# Altium integrated library TI_Logic_Flip-Flop,Latch,Register.IntLib: 2598 symbols (part 42 of 122)
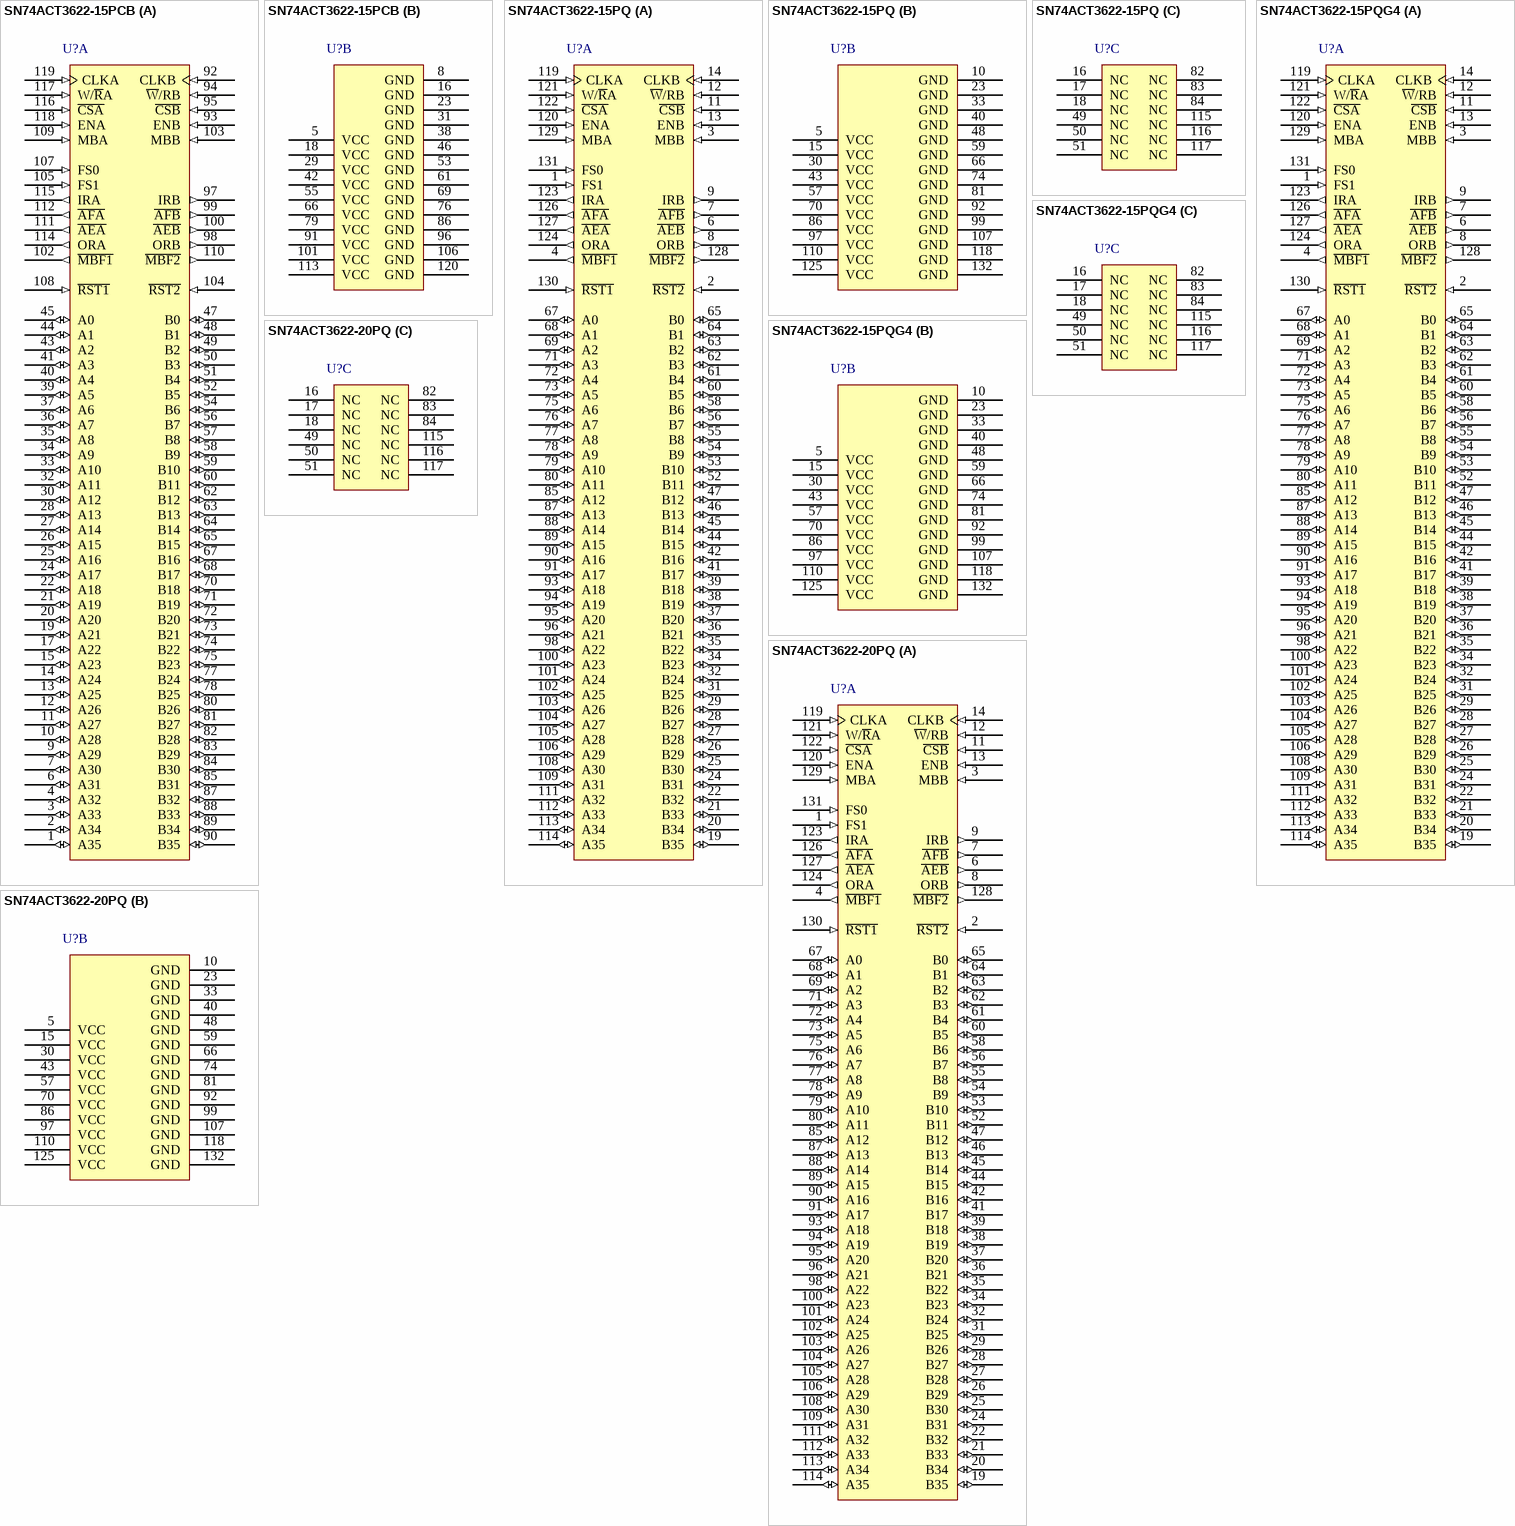
[diagram p180: symbols SN74ACT3622-15PCB to SN74ACT3622-20PQ]

## SN74ACT3622-15PQ
designator U?
256 x 36 x 2 bidirectional synchronous FIFO memory, PQ0132A, JEDEC TRAY (10+1); Generic Part Number: SN74ACT3622; Manufacturer: Texas Instruments; PartNumber: SN74ACT3622-15PQ; Vcc range(V): 4.5 to 5.5; Fmax(MHz): 67; Voltage Nodes(V): 5; Sync/Async: S; Rating: Catalog; Output Drive(mA): -0.5; DatasheetVersion: SCAS247D; PackageReference: PQ0132A; Depth: 255; Width: 36; Operating Temperature Range(C): 0 to 70; Code_JEDEC: MO-069; ComponentLink1Description: Manufacturer URL; ComponentLink1URL: http://www.ti.com/; ComponentLink2Description: Datasheet; ComponentLink2URL: http://www.ti.com/lit/ds/symlink/sn74act3622.pdf; ComponentLink3Description: Package Specification; ComponentLink3URL: http://www.ti.com/lit/ml/mbqf001a/mbqf001a.pdf
footprint PQ0132A_N (QFP, 132-Leads, Body 24.1x24.1mm, Pitch 0.635mm, IPC Medium Density)
footprint PQ0132A_M (QFP, 132-Leads, Body 24.1x24.1mm, Pitch 0.635mm, IPC Low Density)
footprint PQ0132A_L (QFP, 132-Leads, Body 24.1x24.1mm, Pitch 0.635mm, IPC High Density)
part A pins: 1 FS1 (in) "Flag-offset selects. The low-to-high transition of a FIFO reset input latches the values of FS0 and FS1. If either FS0 or FS1 is high when a reset input goes high, one of three preset values is selected as the offset for the (See Datasheet)", 2 ~{RST2} (in) "FIFO2 reset. To reset FIFO2, four low-to-high transitions of CLKA and four low-to-high transitions of CLKB must occur while R\S\T\2\ is low. The low-to-high transition of R\S\T\2\ latches the status of FS0 and FS1 for A\F\B\ (See Datasheet)", 3 MBB (in) "Port-B mailbox select. A high level on MBB chooses a mailbox register for a port-B read or write operation. When the B0-B35 outputs are active, a high level on MBB selects data from the mail1 register for output and a low (See Datasheet)", 4 ~{MBF1} (out) "Mail1 register flag. M\B\F\1\ is set low by the low-to-high transition of CLKA that writes data to the mail1 register. Writes to the mail1 register are inhibited while M\B\F\1\ is low. M\B\F\1\ is set high by a low-to-high (See Datasheet)", 6 ~{AEB} (out) "Port-B almost-empty flag. Programmable flag synchronized to CLKB. A\E\B\ is low when the number of words in FIFO1 is less than or equal to the value in the almost-empty B offset register, X1.", 7 ~{AFB} (out) "Port-B almost-full flag. Programmable flag synchronized to CLKB. A\F\B\ is low when the number of empty locations in FIFO2 is less than or equal to the value in the almost-full B offset register, Y2.", 8 ORB (out) "Output-ready flag. ORB is synchronized to the low-to-high transition of CLKB. When ORB is low, FIFO1 is empty and reads from its memory are disabled. Ready data is present on the output register of FIFO1 when ORB is high. (See Datasheet)", 9 IRB (out) "Input-ready flag. IRB is synchronized to the low-to-high transition of CLKB. When IRB is low, FIFO2 is full and writes to its array are disabled. IRB is set low when FIFO2 is reset and is set high on the second low-to-high (See Datasheet)", 11 ~{CSB} (in) "Port-B chip select. C\S\B\ must be low to enable a low-to-high transition of CLKB to read or write data on port B. The B0-B35 outputs are in the high-impedance state when C\S\B\ is high.", 12 ~{W}/RB (in) "Port-B write/read select. A low on W\/RB selects a write operation and a high selects a read operation on port B for a low-to-high transition of CLKB. The B0-B35 outputs are in the high-impedance state when W\/RB is low.", 13 ENB (in) "Port-B enable. ENB must be high to enable a low-to-high transition of CLKB to read or write data on port B", 14 CLKB (in) "Port-B clock. CLKB is a continuous clock that synchronizes all data transfers through port B and can be asynchronous or coincident to CLKA. IRB, ORB, A\F\B\, and A\E\B\ are synchronized to the low-to-high transition of CLKB", 19 B35 (io) "Port-B data. The 36-bit bidirectional data port for side B.", 20 B34 (io) "Port-B data. The 36-bit bidirectional data port for side B.", 21 B33 (io) "Port-B data. The 36-bit bidirectional data port for side B.", 22 B32 (io) "Port-B data. The 36-bit bidirectional data port for side B.", 24 B31 (io) "Port-B data. The 36-bit bidirectional data port for side B.", 25 B30 (io) "Port-B data. The 36-bit bidirectional data port for side B.", 26 B29 (io) "Port-B data. The 36-bit bidirectional data port for side B.", 27 B28 (io) "Port-B data. The 36-bit bidirectional data port for side B.", 28 B27 (io) "Port-B data. The 36-bit bidirectional data port for side B.", 29 B26 (io) "Port-B data. The 36-bit bidirectional data port for side B.", 31 B25 (io) "Port-B data. The 36-bit bidirectional data port for side B.", 32 B24 (io) "Port-B data. The 36-bit bidirectional data port for side B.", 34 B23 (io) "Port-B data. The 36-bit bidirectional data port for side B.", 35 B22 (io) "Port-B data. The 36-bit bidirectional data port for side B.", 36 B21 (io) "Port-B data. The 36-bit bidirectional data port for side B.", 37 B20 (io) "Port-B data. The 36-bit bidirectional data port for side B.", 38 B19 (io) "Port-B data. The 36-bit bidirectional data port for side B.", 39 B18 (io) "Port-B data. The 36-bit bidirectional data port for side B.", 41 B17 (io) "Port-B data. The 36-bit bidirectional data port for side B.", 42 B16 (io) "Port-B data. The 36-bit bidirectional data port for side B.", 44 B15 (io) "Port-B data. The 36-bit bidirectional data port for side B.", 45 B14 (io) "Port-B data. The 36-bit bidirectional data port for side B.", 46 B13 (io) "Port-B data. The 36-bit bidirectional data port for side B.", 47 B12 (io) "Port-B data. The 36-bit bidirectional data port for side B.", 52 B11 (io) "Port-B data. The 36-bit bidirectional data port for side B.", 53 B10 (io) "Port-B data. The 36-bit bidirectional data port for side B.", 54 B9 (io) "Port-B data. The 36-bit bidirectional data port for side B.", 55 B8 (io) "Port-B data. The 36-bit bidirectional data port for side B.", 56 B7 (io) "Port-B data. The 36-bit bidirectional data port for side B.", 58 B6 (io) "Port-B data. The 36-bit bidirectional data port for side B.", 60 B5 (io) "Port-B data. The 36-bit bidirectional data port for side B.", 61 B4 (io) "Port-B data. The 36-bit bidirectional data port for side B.", 62 B3 (io) "Port-B data. The 36-bit bidirectional data port for side B.", 63 B2 (io) "Port-B data. The 36-bit bidirectional data port for side B.", 64 B1 (io) "Port-B data. The 36-bit bidirectional data port for side B.", 65 B0 (io) "Port-B data. The 36-bit bidirectional data port for side B.", 67 A0 (io) "Port-A data. The 36-bit bidirectional data port for side A.", 68 A1 (io) "Port-A data. The 36-bit bidirectional data port for side A.", 69 A2 (io) "Port-A data. The 36-bit bidirectional data port for side A.", 71 A3 (io) "Port-A data. The 36-bit bidirectional data port for side A.", 72 A4 (io) "Port-A data. The 36-bit bidirectional data port for side A.", 73 A5 (io) "Port-A data. The 36-bit bidirectional data port for side A.", 75 A6 (io) "Port-A data. The 36-bit bidirectional data port for side A.", 76 A7 (io) "Port-A data. The 36-bit bidirectional data port for side A.", 77 A8 (io) "Port-A data. The 36-bit bidirectional data port for side A.", 78 A9 (io) "Port-A data. The 36-bit bidirectional data port for side A.", 79 A10 (io) "Port-A data. The 36-bit bidirectional data port for side A.", 80 A11 (io) "Port-A data. The 36-bit bidirectional data port for side A.", 85 A12 (io) "Port-A data. The 36-bit bidirectional data port for side A.", 87 A13 (io) "Port-A data. The 36-bit bidirectional data port for side A.", 88 A14 (io) "Port-A data. The 36-bit bidirectional data port for side A.", 89 A15 (io) "Port-A data. The 36-bit bidirectional data port for side A.", 90 A16 (io) "Port-A data. The 36-bit bidirectional data port for side A.", 91 A17 (io) "Port-A data. The 36-bit bidirectional data port for side A.", 93 A18 (io) "Port-A data. The 36-bit bidirectional data port for side A.", 94 A19 (io) "Port-A data. The 36-bit bidirectional data port for side A.", 95 A20 (io) "Port-A data. The 36-bit bidirectional data port for side A.", 96 A21 (io) "Port-A data. The 36-bit bidirectional data port for side A.", 98 A22 (io) "Port-A data. The 36-bit bidirectional data port for side A.", 100 A23 (io) "Port-A data. The 36-bit bidirectional data port for side A.", 101 A24 (io) "Port-A data. The 36-bit bidirectional data port for side A.", 102 A25 (io) "Port-A data. The 36-bit bidirectional data port for side A.", 103 A26 (io) "Port-A data. The 36-bit bidirectional data port for side A.", 104 A27 (io) "Port-A data. The 36-bit bidirectional data port for side A.", 105 A28 (io) "Port-A data. The 36-bit bidirectional data port for side A.", 106 A29 (io) "Port-A data. The 36-bit bidirectional data port for side A.", 108 A30 (io) "Port-A data. The 36-bit bidirectional data port for side A.", 109 A31 (io) "Port-A data. The 36-bit bidirectional data port for side A.", 111 A32 (io) "Port-A data. The 36-bit bidirectional data port for side A.", 112 A33 (io) "Port-A data. The 36-bit bidirectional data port for side A.", 113 A34 (io) "Port-A data. The 36-bit bidirectional data port for side A.", 114 A35 (io) "Port-A data. The 36-bit bidirectional data port for side A.", 119 CLKA (in) "Port-A clock. CLKA is a continuous clock that synchronizes all data transfers through port A and can be asynchronous or coincident to CLKB. IRA, ORA, A\F\A\, and A\E\A\ are all synchronized to the low-to-high transition of (See Datasheet)", 120 ENA (in) "Port-A enable. ENA must be high to enable a low-to-high transition of CLKA to read or write data on port A.", 121 W/~{R}A (in) "Port-A write/read select. A high on W/R\A selects a write operation and a low selects a read operation on port A for a low-to-high transition of CLKA. The A0-A35 outputs are in the high-impedance state when W/R\A is high.", 122 ~{CSA} (in) "Port-A chip select. C\S\A\ must be low to enable a low-to-high transition of CLKA to read or write data on port A. The A0-A35 outputs are in the high-impedance state when C\S\A\ is high.", 123 IRA (out) "Input-ready flag. IRA is synchronized to the low-to-high transition of CLKA. When IRA is low, FIFO1 is full and writes to its array are disabled. IRA is set low when FIFO1 is reset and is set high on the second low-to-high (See Datasheet)", 124 ORA (out) "Output-ready flag. ORA is synchronized to the low-to-high transition of CLKA. When ORA is low, FIFO2 is empty and reads from its memory are disabled. Ready data is present on the output register of FIFO2 when ORA is high. (See Datasheet)", 126 ~{AFA} (out) "Port-A almost-full flag. Programmable flag synchronized to CLKA. A\F\A\ is low when the number of empty locations in FIFO1 is less than or equal to the value in the almost-full A offset register, Y1.", 127 ~{AEA} (out) "Port-A almost-empty flag. Programmable flag synchronized to CLKA. A\E\A\ is low when the number of words in FIFO2 is less than or equal to the value in the almost-empty A offset register, X2.", 128 ~{MBF2} (out) "Mail2 register flag. M\B\F\2\ is set low by the low-to-high transition of CLKB that writes data to the mail2 register. Writes to the mail2 register are inhibited while M\B\F\2\ is low. M\B\F\2\ is set high by a low-to-high (See Datasheet)", 129 MBA (in) "Port-A mailbox select. A high level on MBA chooses a mailbox register for a port-A read or write operation. When the A0-A35 outputs are active, a high level on MBA selects data from the mail2 register for output and a low (See Datasheet)", 130 ~{RST1} (in) "FIFO1 reset. To reset FIFO1, four low-to-high transitions of CLKA and four low-to-high transitions of CLKB must occur while R\S\T\1\ is low. The low-to-high transition of R\S\T\1\ latches the status of FS0 and FS1 for A\F\A\ (See Datasheet)", 131 FS0 (in) "Flag-offset selects. The low-to-high transition of a FIFO reset input latches the values of FS0 and FS1. If either FS0 or FS1 is high when a reset input goes high, one of three preset values is selected as the offset for the (See Datasheet)"
part B pins: 5 VCC (power), 10 GND (power), 15 VCC (power), 23 GND (power), 30 VCC (power), 33 GND (power), 40 GND (power), 43 VCC (power), 48 GND (power), 57 VCC (power), 59 GND (power), 66 GND (power), 70 VCC (power), 74 GND (power), 81 GND (power), 86 VCC (power), 92 GND (power), 97 VCC (power), 99 GND (power), 107 GND (power), 110 VCC (power), 118 GND (power), 125 VCC (power), 132 GND (power)
part C pins: 16 NC, 17 NC, 18 NC, 49 NC, 50 NC, 51 NC, 82 NC, 83 NC, 84 NC, 115 NC, 116 NC, 117 NC

## SN74ACT3622-15PQG4
designator U?
256 x 36 x 2 bidirectional synchronous FIFO memory, PQ0132A, JEDEC TRAY (10+1); Generic Part Number: SN74ACT3622; Manufacturer: Texas Instruments; PartNumber: SN74ACT3622-15PQG4; Vcc range(V): 4.5 to 5.5; Fmax(MHz): 67; Voltage Nodes(V): 5; Sync/Async: S; Rating: Catalog; Output Drive(mA): -0.5; DatasheetVersion: SCAS247D; PackageReference: PQ0132A; Depth: 255; Width: 36; Operating Temperature Range(C): 0 to 70; Code_JEDEC: MO-069; ComponentLink1Description: Manufacturer URL; ComponentLink1URL: http://www.ti.com/; ComponentLink2Description: Datasheet; ComponentLink2URL: http://www.ti.com/lit/ds/symlink/sn74act3622.pdf; ComponentLink3Description: Package Specification; ComponentLink3URL: http://www.ti.com/lit/ml/mbqf001a/mbqf001a.pdf
footprint PQ0132A_N (QFP, 132-Leads, Body 24.1x24.1mm, Pitch 0.635mm, IPC Medium Density)
footprint PQ0132A_M (QFP, 132-Leads, Body 24.1x24.1mm, Pitch 0.635mm, IPC Low Density)
footprint PQ0132A_L (QFP, 132-Leads, Body 24.1x24.1mm, Pitch 0.635mm, IPC High Density)
part A pins: 1 FS1 (in) "Flag-offset selects. The low-to-high transition of a FIFO reset input latches the values of FS0 and FS1. If either FS0 or FS1 is high when a reset input goes high, one of three preset values is selected as the offset for the (See Datasheet)", 2 ~{RST2} (in) "FIFO2 reset. To reset FIFO2, four low-to-high transitions of CLKA and four low-to-high transitions of CLKB must occur while R\S\T\2\ is low. The low-to-high transition of R\S\T\2\ latches the status of FS0 and FS1 for A\F\B\ (See Datasheet)", 3 MBB (in) "Port-B mailbox select. A high level on MBB chooses a mailbox register for a port-B read or write operation. When the B0-B35 outputs are active, a high level on MBB selects data from the mail1 register for output and a low (See Datasheet)", 4 ~{MBF1} (out) "Mail1 register flag. M\B\F\1\ is set low by the low-to-high transition of CLKA that writes data to the mail1 register. Writes to the mail1 register are inhibited while M\B\F\1\ is low. M\B\F\1\ is set high by a low-to-high (See Datasheet)", 6 ~{AEB} (out) "Port-B almost-empty flag. Programmable flag synchronized to CLKB. A\E\B\ is low when the number of words in FIFO1 is less than or equal to the value in the almost-empty B offset register, X1.", 7 ~{AFB} (out) "Port-B almost-full flag. Programmable flag synchronized to CLKB. A\F\B\ is low when the number of empty locations in FIFO2 is less than or equal to the value in the almost-full B offset register, Y2.", 8 ORB (out) "Output-ready flag. ORB is synchronized to the low-to-high transition of CLKB. When ORB is low, FIFO1 is empty and reads from its memory are disabled. Ready data is present on the output register of FIFO1 when ORB is high. (See Datasheet)", 9 IRB (out) "Input-ready flag. IRB is synchronized to the low-to-high transition of CLKB. When IRB is low, FIFO2 is full and writes to its array are disabled. IRB is set low when FIFO2 is reset and is set high on the second low-to-high (See Datasheet)", 11 ~{CSB} (in) "Port-B chip select. C\S\B\ must be low to enable a low-to-high transition of CLKB to read or write data on port B. The B0-B35 outputs are in the high-impedance state when C\S\B\ is high.", 12 ~{W}/RB (in) "Port-B write/read select. A low on W\/RB selects a write operation and a high selects a read operation on port B for a low-to-high transition of CLKB. The B0-B35 outputs are in the high-impedance state when W\/RB is low.", 13 ENB (in) "Port-B enable. ENB must be high to enable a low-to-high transition of CLKB to read or write data on port B", 14 CLKB (in) "Port-B clock. CLKB is a continuous clock that synchronizes all data transfers through port B and can be asynchronous or coincident to CLKA. IRB, ORB, A\F\B\, and A\E\B\ are synchronized to the low-to-high transition of CLKB", 19 B35 (io) "Port-B data. The 36-bit bidirectional data port for side B.", 20 B34 (io) "Port-B data. The 36-bit bidirectional data port for side B.", 21 B33 (io) "Port-B data. The 36-bit bidirectional data port for side B.", 22 B32 (io) "Port-B data. The 36-bit bidirectional data port for side B.", 24 B31 (io) "Port-B data. The 36-bit bidirectional data port for side B.", 25 B30 (io) "Port-B data. The 36-bit bidirectional data port for side B.", 26 B29 (io) "Port-B data. The 36-bit bidirectional data port for side B.", 27 B28 (io) "Port-B data. The 36-bit bidirectional data port for side B.", 28 B27 (io) "Port-B data. The 36-bit bidirectional data port for side B.", 29 B26 (io) "Port-B data. The 36-bit bidirectional data port for side B.", 31 B25 (io) "Port-B data. The 36-bit bidirectional data port for side B.", 32 B24 (io) "Port-B data. The 36-bit bidirectional data port for side B.", 34 B23 (io) "Port-B data. The 36-bit bidirectional data port for side B.", 35 B22 (io) "Port-B data. The 36-bit bidirectional data port for side B.", 36 B21 (io) "Port-B data. The 36-bit bidirectional data port for side B.", 37 B20 (io) "Port-B data. The 36-bit bidirectional data port for side B.", 38 B19 (io) "Port-B data. The 36-bit bidirectional data port for side B.", 39 B18 (io) "Port-B data. The 36-bit bidirectional data port for side B.", 41 B17 (io) "Port-B data. The 36-bit bidirectional data port for side B.", 42 B16 (io) "Port-B data. The 36-bit bidirectional data port for side B.", 44 B15 (io) "Port-B data. The 36-bit bidirectional data port for side B.", 45 B14 (io) "Port-B data. The 36-bit bidirectional data port for side B.", 46 B13 (io) "Port-B data. The 36-bit bidirectional data port for side B.", 47 B12 (io) "Port-B data. The 36-bit bidirectional data port for side B.", 52 B11 (io) "Port-B data. The 36-bit bidirectional data port for side B.", 53 B10 (io) "Port-B data. The 36-bit bidirectional data port for side B.", 54 B9 (io) "Port-B data. The 36-bit bidirectional data port for side B.", 55 B8 (io) "Port-B data. The 36-bit bidirectional data port for side B.", 56 B7 (io) "Port-B data. The 36-bit bidirectional data port for side B.", 58 B6 (io) "Port-B data. The 36-bit bidirectional data port for side B.", 60 B5 (io) "Port-B data. The 36-bit bidirectional data port for side B.", 61 B4 (io) "Port-B data. The 36-bit bidirectional data port for side B.", 62 B3 (io) "Port-B data. The 36-bit bidirectional data port for side B.", 63 B2 (io) "Port-B data. The 36-bit bidirectional data port for side B.", 64 B1 (io) "Port-B data. The 36-bit bidirectional data port for side B.", 65 B0 (io) "Port-B data. The 36-bit bidirectional data port for side B.", 67 A0 (io) "Port-A data. The 36-bit bidirectional data port for side A.", 68 A1 (io) "Port-A data. The 36-bit bidirectional data port for side A.", 69 A2 (io) "Port-A data. The 36-bit bidirectional data port for side A.", 71 A3 (io) "Port-A data. The 36-bit bidirectional data port for side A.", 72 A4 (io) "Port-A data. The 36-bit bidirectional data port for side A.", 73 A5 (io) "Port-A data. The 36-bit bidirectional data port for side A.", 75 A6 (io) "Port-A data. The 36-bit bidirectional data port for side A.", 76 A7 (io) "Port-A data. The 36-bit bidirectional data port for side A.", 77 A8 (io) "Port-A data. The 36-bit bidirectional data port for side A.", 78 A9 (io) "Port-A data. The 36-bit bidirectional data port for side A.", 79 A10 (io) "Port-A data. The 36-bit bidirectional data port for side A.", 80 A11 (io) "Port-A data. The 36-bit bidirectional data port for side A.", 85 A12 (io) "Port-A data. The 36-bit bidirectional data port for side A.", 87 A13 (io) "Port-A data. The 36-bit bidirectional data port for side A.", 88 A14 (io) "Port-A data. The 36-bit bidirectional data port for side A.", 89 A15 (io) "Port-A data. The 36-bit bidirectional data port for side A.", 90 A16 (io) "Port-A data. The 36-bit bidirectional data port for side A.", 91 A17 (io) "Port-A data. The 36-bit bidirectional data port for side A.", 93 A18 (io) "Port-A data. The 36-bit bidirectional data port for side A.", 94 A19 (io) "Port-A data. The 36-bit bidirectional data port for side A.", 95 A20 (io) "Port-A data. The 36-bit bidirectional data port for side A.", 96 A21 (io) "Port-A data. The 36-bit bidirectional data port for side A.", 98 A22 (io) "Port-A data. The 36-bit bidirectional data port for side A.", 100 A23 (io) "Port-A data. The 36-bit bidirectional data port for side A.", 101 A24 (io) "Port-A data. The 36-bit bidirectional data port for side A.", 102 A25 (io) "Port-A data. The 36-bit bidirectional data port for side A.", 103 A26 (io) "Port-A data. The 36-bit bidirectional data port for side A.", 104 A27 (io) "Port-A data. The 36-bit bidirectional data port for side A.", 105 A28 (io) "Port-A data. The 36-bit bidirectional data port for side A.", 106 A29 (io) "Port-A data. The 36-bit bidirectional data port for side A.", 108 A30 (io) "Port-A data. The 36-bit bidirectional data port for side A.", 109 A31 (io) "Port-A data. The 36-bit bidirectional data port for side A.", 111 A32 (io) "Port-A data. The 36-bit bidirectional data port for side A.", 112 A33 (io) "Port-A data. The 36-bit bidirectional data port for side A.", 113 A34 (io) "Port-A data. The 36-bit bidirectional data port for side A.", 114 A35 (io) "Port-A data. The 36-bit bidirectional data port for side A.", 119 CLKA (in) "Port-A clock. CLKA is a continuous clock that synchronizes all data transfers through port A and can be asynchronous or coincident to CLKB. IRA, ORA, A\F\A\, and A\E\A\ are all synchronized to the low-to-high transition of (See Datasheet)", 120 ENA (in) "Port-A enable. ENA must be high to enable a low-to-high transition of CLKA to read or write data on port A.", 121 W/~{R}A (in) "Port-A write/read select. A high on W/R\A selects a write operation and a low selects a read operation on port A for a low-to-high transition of CLKA. The A0-A35 outputs are in the high-impedance state when W/R\A is high.", 122 ~{CSA} (in) "Port-A chip select. C\S\A\ must be low to enable a low-to-high transition of CLKA to read or write data on port A. The A0-A35 outputs are in the high-impedance state when C\S\A\ is high.", 123 IRA (out) "Input-ready flag. IRA is synchronized to the low-to-high transition of CLKA. When IRA is low, FIFO1 is full and writes to its array are disabled. IRA is set low when FIFO1 is reset and is set high on the second low-to-high (See Datasheet)", 124 ORA (out) "Output-ready flag. ORA is synchronized to the low-to-high transition of CLKA. When ORA is low, FIFO2 is empty and reads from its memory are disabled. Ready data is present on the output register of FIFO2 when ORA is high. (See Datasheet)", 126 ~{AFA} (out) "Port-A almost-full flag. Programmable flag synchronized to CLKA. A\F\A\ is low when the number of empty locations in FIFO1 is less than or equal to the value in the almost-full A offset register, Y1.", 127 ~{AEA} (out) "Port-A almost-empty flag. Programmable flag synchronized to CLKA. A\E\A\ is low when the number of words in FIFO2 is less than or equal to the value in the almost-empty A offset register, X2.", 128 ~{MBF2} (out) "Mail2 register flag. M\B\F\2\ is set low by the low-to-high transition of CLKB that writes data to the mail2 register. Writes to the mail2 register are inhibited while M\B\F\2\ is low. M\B\F\2\ is set high by a low-to-high (See Datasheet)", 129 MBA (in) "Port-A mailbox select. A high level on MBA chooses a mailbox register for a port-A read or write operation. When the A0-A35 outputs are active, a high level on MBA selects data from the mail2 register for output and a low (See Datasheet)", 130 ~{RST1} (in) "FIFO1 reset. To reset FIFO1, four low-to-high transitions of CLKA and four low-to-high transitions of CLKB must occur while R\S\T\1\ is low. The low-to-high transition of R\S\T\1\ latches the status of FS0 and FS1 for A\F\A\ (See Datasheet)", 131 FS0 (in) "Flag-offset selects. The low-to-high transition of a FIFO reset input latches the values of FS0 and FS1. If either FS0 or FS1 is high when a reset input goes high, one of three preset values is selected as the offset for the (See Datasheet)"
part B pins: 5 VCC (power), 10 GND (power), 15 VCC (power), 23 GND (power), 30 VCC (power), 33 GND (power), 40 GND (power), 43 VCC (power), 48 GND (power), 57 VCC (power), 59 GND (power), 66 GND (power), 70 VCC (power), 74 GND (power), 81 GND (power), 86 VCC (power), 92 GND (power), 97 VCC (power), 99 GND (power), 107 GND (power), 110 VCC (power), 118 GND (power), 125 VCC (power), 132 GND (power)
part C pins: 16 NC, 17 NC, 18 NC, 49 NC, 50 NC, 51 NC, 82 NC, 83 NC, 84 NC, 115 NC, 116 NC, 117 NC

## SN74ACT3622-20PQ
designator U?
256 x 36 x 2 bidirectional synchronous FIFO memory, PQ0132A, JEDEC TRAY (10+1); Generic Part Number: SN74ACT3622; Manufacturer: Texas Instruments; PartNumber: SN74ACT3622-20PQ; Vcc range(V): 4.5 to 5.5; Fmax(MHz): 67; Voltage Nodes(V): 5; Sync/Async: S; Rating: Catalog; Output Drive(mA): -0.5; DatasheetVersion: SCAS247D; PackageReference: PQ0132A; Depth: 255; Width: 36; Operating Temperature Range(C): 0 to 70; Code_JEDEC: MO-069; ComponentLink1Description: Manufacturer URL; ComponentLink1URL: http://www.ti.com/; ComponentLink2Description: Datasheet; ComponentLink2URL: http://www.ti.com/lit/ds/symlink/sn74act3622.pdf; ComponentLink3Description: Package Specification; ComponentLink3URL: http://www.ti.com/lit/ml/mbqf001a/mbqf001a.pdf
footprint PQ0132A_N (QFP, 132-Leads, Body 24.1x24.1mm, Pitch 0.635mm, IPC Medium Density)
footprint PQ0132A_M (QFP, 132-Leads, Body 24.1x24.1mm, Pitch 0.635mm, IPC Low Density)
footprint PQ0132A_L (QFP, 132-Leads, Body 24.1x24.1mm, Pitch 0.635mm, IPC High Density)
part A pins: 1 FS1 (in) "Flag-offset selects. The low-to-high transition of a FIFO reset input latches the values of FS0 and FS1. If either FS0 or FS1 is high when a reset input goes high, one of three preset values is selected as the offset for the (See Datasheet)", 2 ~{RST2} (in) "FIFO2 reset. To reset FIFO2, four low-to-high transitions of CLKA and four low-to-high transitions of CLKB must occur while R\S\T\2\ is low. The low-to-high transition of R\S\T\2\ latches the status of FS0 and FS1 for A\F\B\ (See Datasheet)", 3 MBB (in) "Port-B mailbox select. A high level on MBB chooses a mailbox register for a port-B read or write operation. When the B0-B35 outputs are active, a high level on MBB selects data from the mail1 register for output and a low (See Datasheet)", 4 ~{MBF1} (out) "Mail1 register flag. M\B\F\1\ is set low by the low-to-high transition of CLKA that writes data to the mail1 register. Writes to the mail1 register are inhibited while M\B\F\1\ is low. M\B\F\1\ is set high by a low-to-high (See Datasheet)", 6 ~{AEB} (out) "Port-B almost-empty flag. Programmable flag synchronized to CLKB. A\E\B\ is low when the number of words in FIFO1 is less than or equal to the value in the almost-empty B offset register, X1.", 7 ~{AFB} (out) "Port-B almost-full flag. Programmable flag synchronized to CLKB. A\F\B\ is low when the number of empty locations in FIFO2 is less than or equal to the value in the almost-full B offset register, Y2.", 8 ORB (out) "Output-ready flag. ORB is synchronized to the low-to-high transition of CLKB. When ORB is low, FIFO1 is empty and reads from its memory are disabled. Ready data is present on the output register of FIFO1 when ORB is high. (See Datasheet)", 9 IRB (out) "Input-ready flag. IRB is synchronized to the low-to-high transition of CLKB. When IRB is low, FIFO2 is full and writes to its array are disabled. IRB is set low when FIFO2 is reset and is set high on the second low-to-high (See Datasheet)", 11 ~{CSB} (in) "Port-B chip select. C\S\B\ must be low to enable a low-to-high transition of CLKB to read or write data on port B. The B0-B35 outputs are in the high-impedance state when C\S\B\ is high.", 12 ~{W}/RB (in) "Port-B write/read select. A low on W\/RB selects a write operation and a high selects a read operation on port B for a low-to-high transition of CLKB. The B0-B35 outputs are in the high-impedance state when W\/RB is low.", 13 ENB (in) "Port-B enable. ENB must be high to enable a low-to-high transition of CLKB to read or write data on port B", 14 CLKB (in) "Port-B clock. CLKB is a continuous clock that synchronizes all data transfers through port B and can be asynchronous or coincident to CLKA. IRB, ORB, A\F\B\, and A\E\B\ are synchronized to the low-to-high transition of CLKB", 19 B35 (io) "Port-B data. The 36-bit bidirectional data port for side B.", 20 B34 (io) "Port-B data. The 36-bit bidirectional data port for side B.", 21 B33 (io) "Port-B data. The 36-bit bidirectional data port for side B.", 22 B32 (io) "Port-B data. The 36-bit bidirectional data port for side B.", 24 B31 (io) "Port-B data. The 36-bit bidirectional data port for side B.", 25 B30 (io) "Port-B data. The 36-bit bidirectional data port for side B.", 26 B29 (io) "Port-B data. The 36-bit bidirectional data port for side B.", 27 B28 (io) "Port-B data. The 36-bit bidirectional data port for side B.", 28 B27 (io) "Port-B data. The 36-bit bidirectional data port for side B.", 29 B26 (io) "Port-B data. The 36-bit bidirectional data port for side B.", 31 B25 (io) "Port-B data. The 36-bit bidirectional data port for side B.", 32 B24 (io) "Port-B data. The 36-bit bidirectional data port for side B.", 34 B23 (io) "Port-B data. The 36-bit bidirectional data port for side B.", 35 B22 (io) "Port-B data. The 36-bit bidirectional data port for side B.", 36 B21 (io) "Port-B data. The 36-bit bidirectional data port for side B.", 37 B20 (io) "Port-B data. The 36-bit bidirectional data port for side B.", 38 B19 (io) "Port-B data. The 36-bit bidirectional data port for side B.", 39 B18 (io) "Port-B data. The 36-bit bidirectional data port for side B.", 41 B17 (io) "Port-B data. The 36-bit bidirectional data port for side B.", 42 B16 (io) "Port-B data. The 36-bit bidirectional data port for side B.", 44 B15 (io) "Port-B data. The 36-bit bidirectional data port for side B.", 45 B14 (io) "Port-B data. The 36-bit bidirectional data port for side B.", 46 B13 (io) "Port-B data. The 36-bit bidirectional data port for side B.", 47 B12 (io) "Port-B data. The 36-bit bidirectional data port for side B.", 52 B11 (io) "Port-B data. The 36-bit bidirectional data port for side B.", 53 B10 (io) "Port-B data. The 36-bit bidirectional data port for side B.", 54 B9 (io) "Port-B data. The 36-bit bidirectional data port for side B.", 55 B8 (io) "Port-B data. The 36-bit bidirectional data port for side B.", 56 B7 (io) "Port-B data. The 36-bit bidirectional data port for side B.", 58 B6 (io) "Port-B data. The 36-bit bidirectional data port for side B.", 60 B5 (io) "Port-B data. The 36-bit bidirectional data port for side B.", 61 B4 (io) "Port-B data. The 36-bit bidirectional data port for side B.", 62 B3 (io) "Port-B data. The 36-bit bidirectional data port for side B.", 63 B2 (io) "Port-B data. The 36-bit bidirectional data port for side B.", 64 B1 (io) "Port-B data. The 36-bit bidirectional data port for side B.", 65 B0 (io) "Port-B data. The 36-bit bidirectional data port for side B.", 67 A0 (io) "Port-A data. The 36-bit bidirectional data port for side A.", 68 A1 (io) "Port-A data. The 36-bit bidirectional data port for side A.", 69 A2 (io) "Port-A data. The 36-bit bidirectional data port for side A.", 71 A3 (io) "Port-A data. The 36-bit bidirectional data port for side A.", 72 A4 (io) "Port-A data. The 36-bit bidirectional data port for side A.", 73 A5 (io) "Port-A data. The 36-bit bidirectional data port for side A.", 75 A6 (io) "Port-A data. The 36-bit bidirectional data port for side A.", 76 A7 (io) "Port-A data. The 36-bit bidirectional data port for side A.", 77 A8 (io) "Port-A data. The 36-bit bidirectional data port for side A.", 78 A9 (io) "Port-A data. The 36-bit bidirectional data port for side A.", 79 A10 (io) "Port-A data. The 36-bit bidirectional data port for side A.", 80 A11 (io) "Port-A data. The 36-bit bidirectional data port for side A.", 85 A12 (io) "Port-A data. The 36-bit bidirectional data port for side A.", 87 A13 (io) "Port-A data. The 36-bit bidirectional data port for side A.", 88 A14 (io) "Port-A data. The 36-bit bidirectional data port for side A.", 89 A15 (io) "Port-A data. The 36-bit bidirectional data port for side A.", 90 A16 (io) "Port-A data. The 36-bit bidirectional data port for side A.", 91 A17 (io) "Port-A data. The 36-bit bidirectional data port for side A.", 93 A18 (io) "Port-A data. The 36-bit bidirectional data port for side A.", 94 A19 (io) "Port-A data. The 36-bit bidirectional data port for side A.", 95 A20 (io) "Port-A data. The 36-bit bidirectional data port for side A.", 96 A21 (io) "Port-A data. The 36-bit bidirectional data port for side A.", 98 A22 (io) "Port-A data. The 36-bit bidirectional data port for side A.", 100 A23 (io) "Port-A data. The 36-bit bidirectional data port for side A.", 101 A24 (io) "Port-A data. The 36-bit bidirectional data port for side A.", 102 A25 (io) "Port-A data. The 36-bit bidirectional data port for side A.", 103 A26 (io) "Port-A data. The 36-bit bidirectional data port for side A.", 104 A27 (io) "Port-A data. The 36-bit bidirectional data port for side A.", 105 A28 (io) "Port-A data. The 36-bit bidirectional data port for side A.", 106 A29 (io) "Port-A data. The 36-bit bidirectional data port for side A.", 108 A30 (io) "Port-A data. The 36-bit bidirectional data port for side A.", 109 A31 (io) "Port-A data. The 36-bit bidirectional data port for side A.", 111 A32 (io) "Port-A data. The 36-bit bidirectional data port for side A.", 112 A33 (io) "Port-A data. The 36-bit bidirectional data port for side A.", 113 A34 (io) "Port-A data. The 36-bit bidirectional data port for side A.", 114 A35 (io) "Port-A data. The 36-bit bidirectional data port for side A.", 119 CLKA (in) "Port-A clock. CLKA is a continuous clock that synchronizes all data transfers through port A and can be asynchronous or coincident to CLKB. IRA, ORA, A\F\A\, and A\E\A\ are all synchronized to the low-to-high transition of (See Datasheet)", 120 ENA (in) "Port-A enable. ENA must be high to enable a low-to-high transition of CLKA to read or write data on port A.", 121 W/~{R}A (in) "Port-A write/read select. A high on W/R\A selects a write operation and a low selects a read operation on port A for a low-to-high transition of CLKA. The A0-A35 outputs are in the high-impedance state when W/R\A is high.", 122 ~{CSA} (in) "Port-A chip select. C\S\A\ must be low to enable a low-to-high transition of CLKA to read or write data on port A. The A0-A35 outputs are in the high-impedance state when C\S\A\ is high.", 123 IRA (out) "Input-ready flag. IRA is synchronized to the low-to-high transition of CLKA. When IRA is low, FIFO1 is full and writes to its array are disabled. IRA is set low when FIFO1 is reset and is set high on the second low-to-high (See Datasheet)", 124 ORA (out) "Output-ready flag. ORA is synchronized to the low-to-high transition of CLKA. When ORA is low, FIFO2 is empty and reads from its memory are disabled. Ready data is present on the output register of FIFO2 when ORA is high. (See Datasheet)", 126 ~{AFA} (out) "Port-A almost-full flag. Programmable flag synchronized to CLKA. A\F\A\ is low when the number of empty locations in FIFO1 is less than or equal to the value in the almost-full A offset register, Y1.", 127 ~{AEA} (out) "Port-A almost-empty flag. Programmable flag synchronized to CLKA. A\E\A\ is low when the number of words in FIFO2 is less than or equal to the value in the almost-empty A offset register, X2.", 128 ~{MBF2} (out) "Mail2 register flag. M\B\F\2\ is set low by the low-to-high transition of CLKB that writes data to the mail2 register. Writes to the mail2 register are inhibited while M\B\F\2\ is low. M\B\F\2\ is set high by a low-to-high (See Datasheet)", 129 MBA (in) "Port-A mailbox select. A high level on MBA chooses a mailbox register for a port-A read or write operation. When the A0-A35 outputs are active, a high level on MBA selects data from the mail2 register for output and a low (See Datasheet)", 130 ~{RST1} (in) "FIFO1 reset. To reset FIFO1, four low-to-high transitions of CLKA and four low-to-high transitions of CLKB must occur while R\S\T\1\ is low. The low-to-high transition of R\S\T\1\ latches the status of FS0 and FS1 for A\F\A\ (See Datasheet)", 131 FS0 (in) "Flag-offset selects. The low-to-high transition of a FIFO reset input latches the values of FS0 and FS1. If either FS0 or FS1 is high when a reset input goes high, one of three preset values is selected as the offset for the (See Datasheet)"
part B pins: 5 VCC (power), 10 GND (power), 15 VCC (power), 23 GND (power), 30 VCC (power), 33 GND (power), 40 GND (power), 43 VCC (power), 48 GND (power), 57 VCC (power), 59 GND (power), 66 GND (power), 70 VCC (power), 74 GND (power), 81 GND (power), 86 VCC (power), 92 GND (power), 97 VCC (power), 99 GND (power), 107 GND (power), 110 VCC (power), 118 GND (power), 125 VCC (power), 132 GND (power)
part C pins: 16 NC, 17 NC, 18 NC, 49 NC, 50 NC, 51 NC, 82 NC, 83 NC, 84 NC, 115 NC, 116 NC, 117 NC

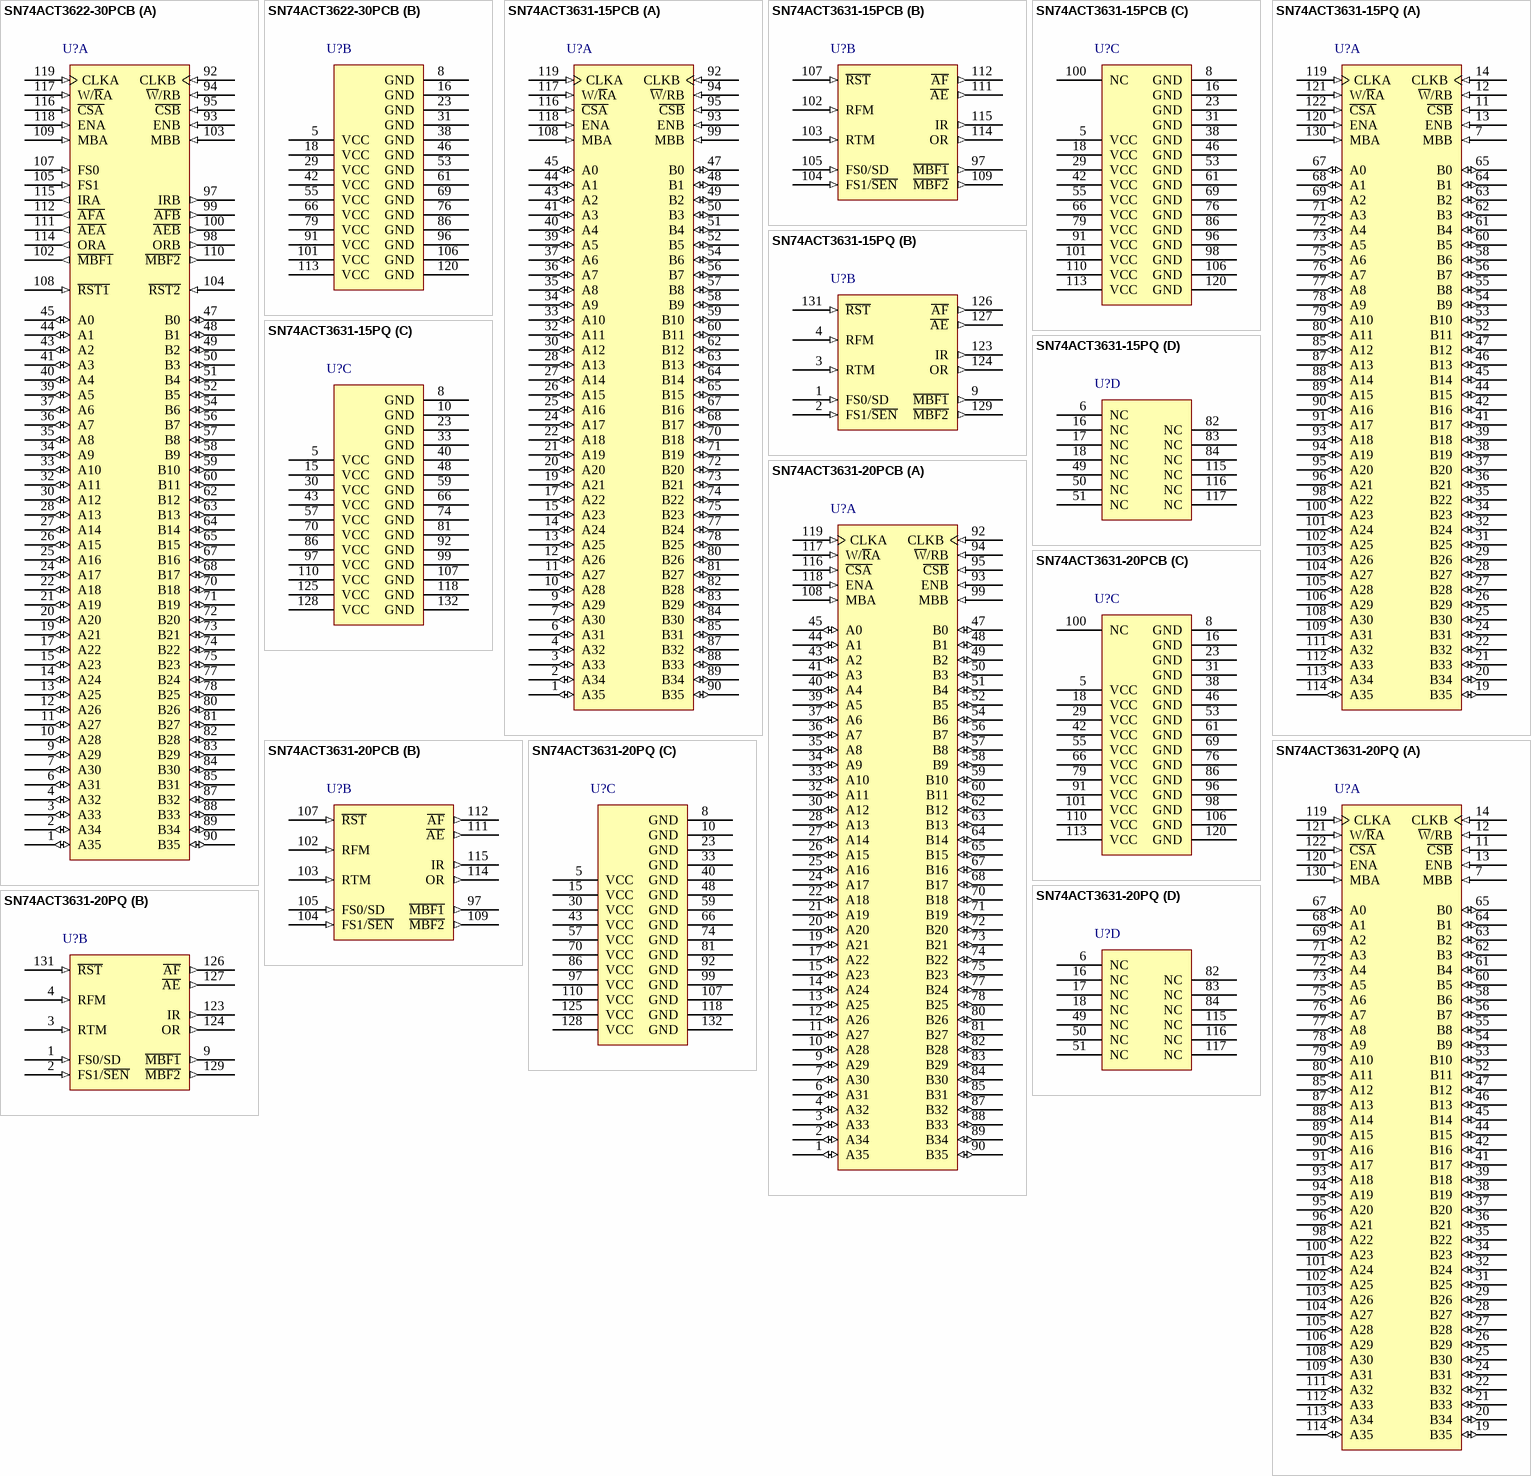
[diagram p55: symbols SN74ACT3622-30PCB to SN74ACT3631-20PQ]